# EAGLE library part ISO150P (library burr-brown)
Dual, Isolated, Bi-Directional Digital Coupler
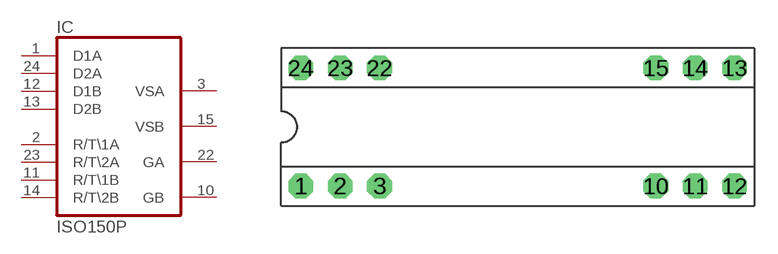
[diagram p274: symbol with the pads of DIP24/12; footprint DIP24/12]

Designator prefix IC

## ISO150P  [DIP24/12]
1  D1A
2  R/T\1A  in
3  VSA  pwr
10  GB  pwr
11  R/T\1B  in
12  D1B
13  D2B
14  R/T\2B  in
15  VSB  pwr
22  GA  pwr
23  R/T\2A  in
24  D2A

## Footprint DIP24/12 (pad centres in mm)
drill 0.813 pad 1.6 octagon: 1 -13.97,-3.81; 2 -11.43,-3.81; 3 -8.89,-3.81; 10 8.89,-3.81; 11 11.43,-3.81; 12 13.97,-3.81; 13 13.97,3.81; 14 11.43,3.81; 15 8.89,3.81; 22 -8.89,3.81; 23 -11.43,3.81; 24 -13.97,3.81